# Altium footprint library URB_MT-3WR3.PcbLib: 1 footprints
Each footprint in its own frame and in the unit in brackets; x right, y up, seen from the top. Pads: shape width x height; smd on the part's side, far side on the other; paste and mask are expansions set on the pad; w line width, h text height; cw(c..) or ccw(c..) is an arc to the next point about the centre after c.
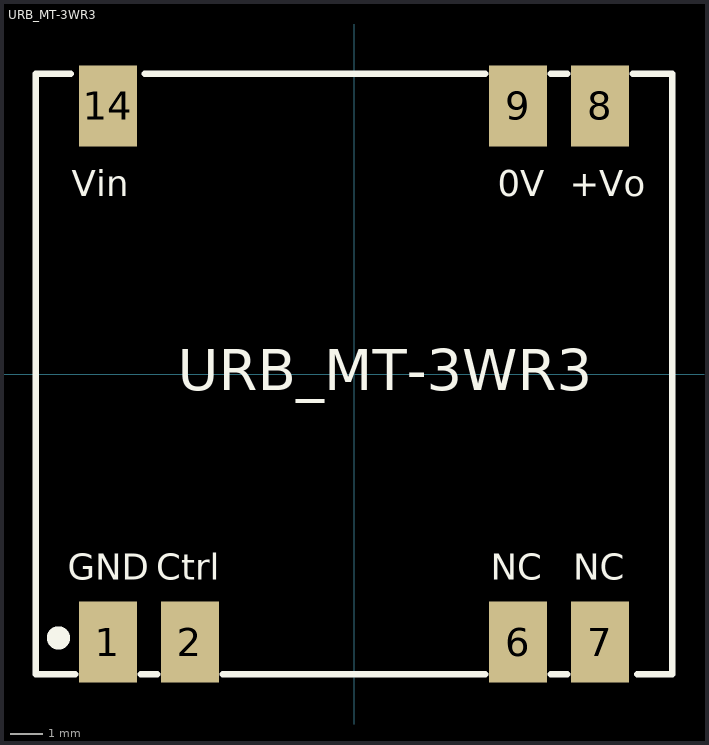
[diagram p0: the footprint, top view; thin cyan lines are the x and y axes]

## URB_MT-3WR3 [mm]
pads (7):
  rect 1.8x2.5 smd: 1(-7.62,-8.3) 2(-5.08,-8.3) 6(5.08,-8.3) 7(7.62,-8.3) 8(7.62,8.3) 9(5.08,8.3) 14(-7.62,8.3)
Top Overlay:
  circle w0.6: c-9.15,-8.17 r0.06
  lines w0.2: -8.763,9.3 -9.85,9.3 -9.85,-9.3 -8.636,-9.3 ; -6.604,-9.3 -6.096,-9.3 ; -6.477,9.3 4.064,9.3 ; -4.064,-9.3 4.064,-9.3 ; 6.096,-9.3 6.604,-9.3 ; 6.096,9.3 6.604,9.3 ; 8.636,9.3 9.85,9.3 9.85,-9.3 8.763,-9.3
  text "+Vo" at 6.673,5.504 h0.8
  text "URB_MT-3WR3" at -5.461,-0.508 h1.27
  text "NC" at 6.793,-6.373 h0.8
  text "GND" at -8.867,-6.373 h0.8
  text "Vin" at -8.74,5.504 h0.8
  text "0V" at 4.445,5.504 h0.8
  text "NC" at 4.233,-6.373 h0.8
  text "Ctrl" at -6.127,-6.373 h0.8